# EAGLE library part SW_ROT_2P4T_ALPHA (library wheat)
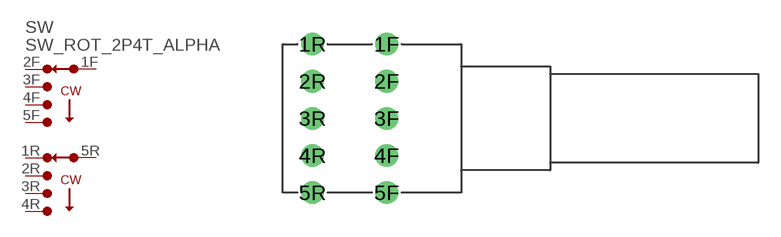
[diagram p278: symbol with the pads of SW_ROT_SR100; footprint SW_ROT_SR100]

Designator prefix SW

## SW_ROT_2P4T_ALPHA  [SW_ROT_SR100]
1F  1F  pas
1R  1R  pas
2F  2F  pas
2R  2R  pas
3F  3F  pas
3R  3R  pas
4F  4F  pas
4R  4R  pas
5F  5F  pas
5R  5R  pas

## Footprint SW_ROT_SR100 (pad centres in mm)
Swicth, rotary, Taiwan Alpha SR10010F
drill 1.016: 1F -5,5; 1R -10,5; 2F -5,2.5; 2R -10,2.5; 3F -5,0; 3R -10,0; 4F -5,-2.5; 4R -10,-2.5; 5F -5,-5; 5R -10,-5